# Altium schematic symbol library Led.Schlib: 7 symbols
Pins are listed as number, name and electrical type; pins without a type are passive.

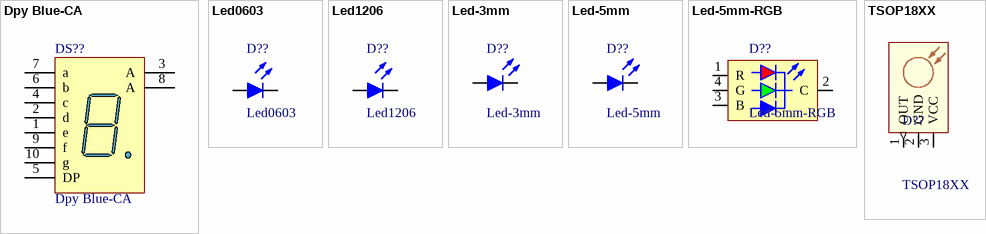
[diagram p0: symbols Dpy Blue-CA to TSOP18XX]

## Dpy Blue-CA
designator DS??
14.2 mm General Purpose Blue 7-Segment Display: CA, RH DP, Gray Surface; MinimumIntensity: 2020 ucd; Note: IF = 10 mA; Published: 8-Jun-2000; LatestRevisionDate: 17-Dec-2003; LatestRevisionNote: Schematic revised, PCB Footprint replaced.; DatasheetVersion: 24-Sep-2002; PackageVersion: 24-Sep-2002; PackageReference: H; Publisher: Altium Limited; Colour: Blue; ComponentLink1Description: Manufacturer Link; ComponentLink1URL: http://www.agilent.com/
footprint DISP7SEG (LED, 7-Segment Display, 14.2 mm, RHD; 10 Leads; Row Space 15.24 mm; Pitch 2.54 mm)
pins: 1 e "Cathode", 2 d "Cathode", 3 A "Common Anode", 4 c "Cathode", 5 DP "Cathode", 6 b "Cathode", 7 a "Cathode", 8 A "Common Anode", 9 f "Cathode", 10 g "Cathode"

## Led0603
designator D??
Led 1206, Body 3.2 x 1.8 mm (LxDia)
footprint 0603LG (Chip Led; Body 1.6 x 0.8 mm (LxW typ))
footprint 0603LR (Chip Led; Body 1.6 x 0.8 mm (LxW typ))
pins: 1 A, 2 K

## Led1206
designator D??
Led 1206, Body 3.2 x 1.8 mm (LxDia)
footprint 0805 (Chip Resistor; Body 2.0 x 1.3 mm (LxW typ))
pins: 1 A, 2 K

## Led-3mm
designator D??
Led 5mm, Body 3.2 x 1.8 mm (LxDia)
footprint LED-3mm (Typical RED GaAs LED; 2 Leads)
pins: 1 A, 2 K

## Led-5mm
designator D??
Led 5mm, Body 3.2 x 1.8 mm (LxDia)
footprint LED-5mm (Typical RED GaAs LED; 2 Leads)
pins: 1 A, 2 K

## Led-5mm-RGB
designator D??
Led 5mm, Body 3.2 x 1.8 mm (LxDia)
footprint LED-5mm - RGB (Typical RED GaAs LED; 2 Leads)
pins: 1 R, 2 C, 3 B, 4 G

## TSOP18XX
designator D??
Photo Modules for PCM Remote Control Systems
footprint TSOP1838 (Typical RED GaAs LED; 2 Leads)
pins: 1 OUT (out), 2 GND (power), 3 VCC (power)